# Altium footprint library SAMTEC_HSEC8-120-01-S-RA.PcbLib: 1 footprints
Each footprint in its own frame and in the unit in brackets; x right, y up, seen from the top. Pads: shape width x height; smd on the part's side, far side on the other; paste and mask are expansions set on the pad; w line width, h text height; cw(c..) or ccw(c..) is an arc to the next point about the centre after c.
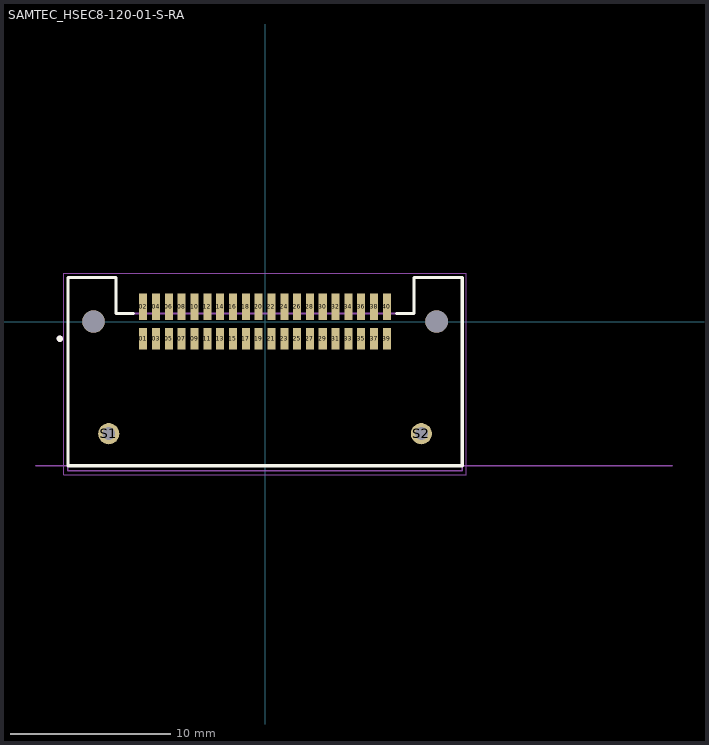
[diagram p0: the footprint, top view; thin cyan lines are the x and y axes]

## SAMTEC_HSEC8-120-01-S-RA [mm]
height 5.2
pads (44):
  rect 0.5x1.35 smd: 01(-7.6,-1.075) 03(-6.8,-1.075) 05(-6,-1.075) 07(-5.2,-1.075) 09(-4.4,-1.075) 11(-3.6,-1.075) 13(-2.8,-1.075) 15(-2,-1.075) 17(-1.2,-1.075) 19(-0.4,-1.075) 21(0.4,-1.075) 23(1.2,-1.075) 25(2,-1.075) 27(2.8,-1.075) 29(3.6,-1.075) 31(4.4,-1.075) 33(5.2,-1.075) 35(6,-1.075) 37(6.8,-1.075) 39(7.6,-1.075)
  rect 0.5x1.65 smd: 02(-7.6,0.925) 04(-6.8,0.925) 06(-6,0.925) 08(-5.2,0.925) 10(-4.4,0.925) 12(-3.6,0.925) 14(-2.8,0.925) 16(-2,0.925) 18(-1.2,0.925) 20(-0.4,0.925) 22(0.4,0.925) 24(1.2,0.925) 26(2,0.925) 28(2.8,0.925) 30(3.6,0.925) 32(4.4,0.925) 34(5.2,0.925) 36(6,0.925) 38(6.8,0.925) 40(7.6,0.925)
  round 1.318 hole 0.81: S1(-9.75,-7) S2(9.75,-7)
  round 1.4 hole 1.4 unplated: ""(-10.7,0) ""(10.7,0)
Top Overlay:
  circle w0.2: c-12.8,-1.075 r0.1
  lines w0.2: -8.2,0.5 -9.3,0.5 -9.3,2.75 -12.3,2.75 -12.3,-9 12.3,-9 12.3,2.75 9.3,2.75 9.3,0.5 8.2,0.5
Top Paste:
  circle w1.205: c9.75,-7 r0.603
  circle w1.205: c-9.75,-7 r0.603
Mechanical 13:
  circle w0.2: c-12.8,-1.075 r0.1
  lines w0.1: -14.3,-9 25.4,-9 ; -12.3,-9.3 12.3,-9.3 12.3,2.75 9.3,2.75 9.3,0.5 -9.3,0.5 -9.3,2.75 -12.3,2.75 -12.3,-9.3
  text "PCB Edge" at 16.81,-8.7 h1.27
Mechanical 15:
  lines w0.05: -12.55,-9.55 12.55,-9.55 12.55,3 -12.55,3 -12.55,-9.55